# Altium footprint library Connector.PcbLib: 240 footprints (part 5 of 15)
Each footprint in its own frame and in the unit in brackets; x right, y up, seen from the top. Pads: shape width x height; smd on the part's side, far side on the other; paste and mask are expansions set on the pad; w line width, h text height; cw(c..) or ccw(c..) is an arc to the next point about the centre after c.
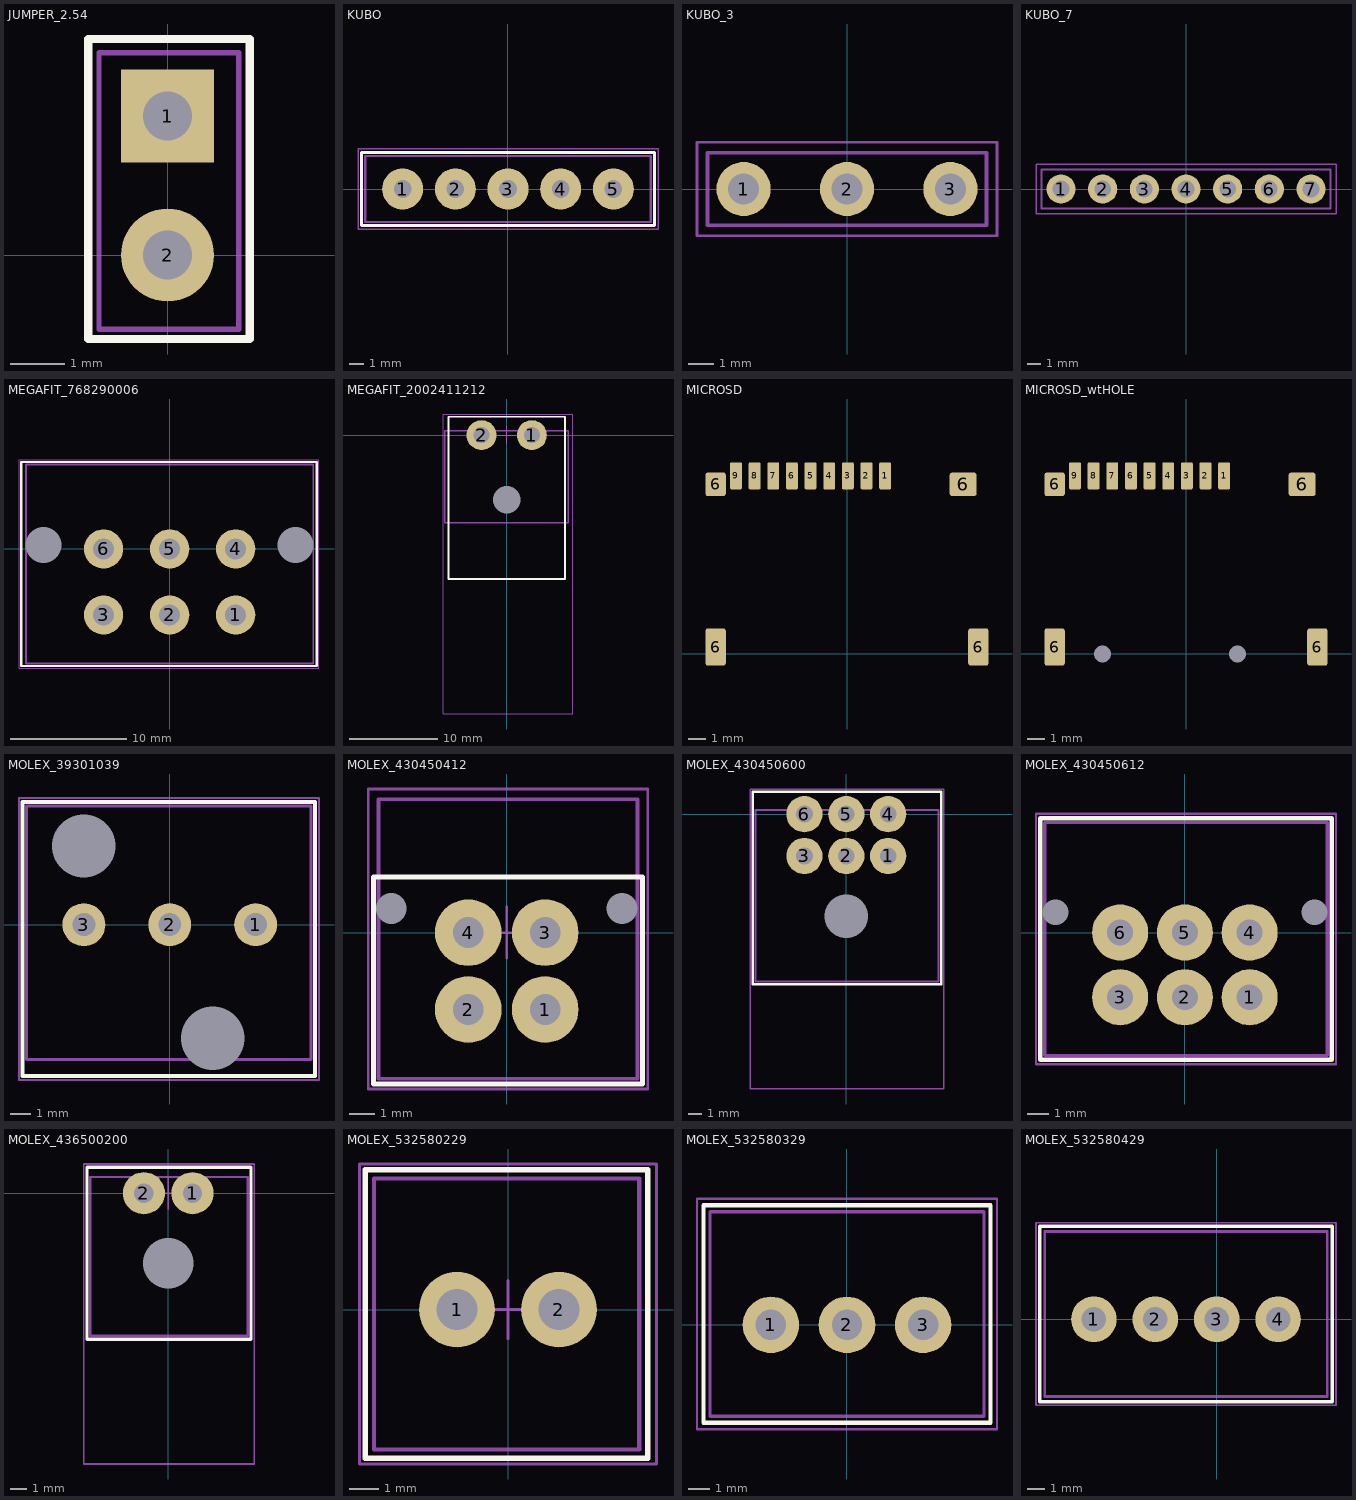
[diagram p4: the footprints below, top view; thin cyan lines are the x and y axes]

## JUMPER_2.54 [mm] "Разъем для программатора ISP"
height 0.05
pads (2):
  rect 1.7x1.7 hole 0.9: 1(0,2.54)
  round 1.7 hole 0.9: 2(0,0)
Top Overlay:
  lines w0.15: -1.45,-1.535 1.5,-1.535 1.5,3.95 -1.45,3.95 -1.45,-1.535
Mechanical 7:
  lines w0.1: -1.255,-1.355 -1.25,-1.36 1.3,-1.36 1.3,3.7 -1.255,3.7 -1.255,-1.355
Mechanical 10:
  text ".Comment" at -0.7,-4.1 h0.6
  text ".Designator" at -0.3,3.7 h0.8
3D body "Jumper.STEP": height 8.54, standoff -3, extent -1.265,-1.355 1.279,3.795

## KUBO [mm]
pads (5):
  round 2.8 hole 1.2: 1(-7.2,0) 2(-3.6,0) 3(0,0) 4(3.6,0) 5(7.2,0)
Top Overlay:
  lines w0.2: -10,-2.5 10,-2.5 10,2.5 -10,2.5 -10,-2.5
Mechanical 11:
  lines w0.15: -9.75,-2.25 9.75,-2.25 9.75,2.25 -9.75,2.25 -9.75,-2.25
Mechanical 15:
  lines w0.1: -1,0 1,0 ; 0,-1 0,1 ; -10.25,-2.75 10.25,-2.75 10.25,2.75 -10.25,2.75 -10.25,-2.75

## KUBO_3 [mm]
pads (3):
  round 2.1 hole 1.2: 1(-4,0) 2(0,0) 3(4,0)
Mechanical 11:
  lines w0.15: -5.4,-1.4 5.4,-1.4 5.4,1.4 -5.4,1.4 -5.4,-1.4
Mechanical 15:
  lines w0.1: -1,0 1,0 ; 0,-1 0,1 ; -5.8,-1.8 5.8,-1.8 5.8,1.8 -5.8,1.8 -5.8,-1.8

## KUBO_7 [mm]
pads (7):
  round 2.1 hole 1.2: 1(-9,0) 2(-6,0) 3(-3,0) 4(0,0) 5(3,0) 6(6,0) 7(9,0)
Mechanical 11:
  lines w0.15: -10.4,-1.4 -10.4,1.4 10.4,1.4 10.4,-1.4 -10.4,-1.4
Mechanical 15:
  lines w0.1: -1,0 1,0 ; 0,-1 0,1 ; -10.8,-1.8 -10.8,1.8 10.8,1.8 10.8,-1.8 -10.8,-1.8

## MEGAFIT_768290006 [mm]
pads (8):
  round 3.4 hole 1.81: 1(5.7,-5.7) 2(0,-5.7) 3(-5.7,-5.7) 4(5.7,0) 5(0,0) 6(-5.7,0)
  round 0 hole 3.1 unplated: ""(-10.87,0.325) ""(10.87,0.325)
Top Overlay:
  lines w0.2: -12.8,-10.1 12.7,-10.1 12.7,7.5 -12.8,7.5 -12.8,-10.1
Mechanical 7:
  lines w0.15: -12.4,-9.9 12.4,-9.9 12.4,7.3 -12.4,7.3 -12.4,-9.9
Mechanical 9:
  text ".Designator" at -7.8,10.1 h3
Mechanical 10:
  text ".Comment" at -3.1,8.3 h2
Mechanical 15:
  lines w0.1: -1,0 1,0 ; 0,-1 0,1 ; -13,-10.3 12.9,-10.3 12.9,7.7 -13,7.7 -13,-10.3
3D body "Connector - 6pin (768290006 & 1716920106).STEP": height 29.13, standoff -3.45, extent -12.391,-9.878 12.4,7.278

## MEGAFIT_2002411212 [mm]
pads (3):
  round 3.4 hole 1.81: 1(2.85,0) 2(-2.85,0)
  round 0 hole 3.1 unplated: ""(0,-7.3)
Top Overlay:
  lines w0.2: -6.6,-16.3 -6.6,2.1 6.6,2.1 6.6,-16.3 -6.6,-16.3
Mechanical 7:
  lines w0.15: -7,-9.9 -7,0.5 7,0.5 7,-9.9 -7,-9.9
Mechanical 9:
  text ".Designator" at -5.1,5 h3
Mechanical 10:
  text ".Comment" at -3.2,3 h2
Mechanical 15:
  lines w0.1: -1,0 1,0 ; 0,-1 0,1 ; -7.2,-31.6 -7.2,2.4 7.5,2.4 7.5,-31.6 -7.2,-31.6
3D body "!2002411212.STEP": height 11.8, standoff -3.41, extent -7.025,-31.537 7.025,0.5

## MICROSD [mm]
pads (13):
  rrect25% 0.7x1.6 smd: 1(2.25,10.5) 2(1.15,10.5) 3(0.05,10.5) 4(-1.05,10.5) 5(-2.15,10.5) 6(-3.25,10.5) 7(-4.35,10.5) 8(-5.45,10.5) 9(-6.55,10.5)
  rrect25% 1.2x2.2 smd: 6(-7.75,0.4) 6(7.75,0.4)
  rrect25% 1.2x1.4 smd: 6(-7.75,10)
  rrect25% 1.6x1.4 smd: 6(6.85,10)
3D body "User Library-MEM2055-00-190-01-A_revG.step": height 1.91, standoff -0.54, extent -8,-4.025 8,11.225

## MICROSD_wtHOLE [mm]
pads (15):
  rrect25% 0.7x1.6 smd: 1(2.25,10.5) 2(1.15,10.5) 3(0.05,10.5) 4(-1.05,10.5) 5(-2.15,10.5) 6(-3.25,10.5) 7(-4.35,10.5) 8(-5.45,10.5) 9(-6.55,10.5)
  rrect25% 1.2x2.2 smd: 6(-7.75,0.4) 6(7.75,0.4)
  rrect25% 1.2x1.4 smd: 6(-7.75,10)
  rrect25% 1.6x1.4 smd: 6(6.85,10)
  round 0 hole 1 unplated: ""(-4.93,0) ""(3.05,0)
3D body "User Library-MEM2055-00-190-01-A_revG.step": height 1.91, standoff -0.54, extent -8,-4.025 8,11.225

## MOLEX_39301039 [mm]
pads (5):
  round 2.1 hole 1.12: 1(4.2,0) 2(0,0) 3(-4.2,0)
  round 0 hole 3.1 unplated: ""(-4.2,3.85) ""(2.1,-5.55)
Top Overlay:
  lines w0.2: -7.2,-7.4 -7.2,6 7.1,6 7.1,-7.4 -7.2,-7.4
Mechanical 11:
  lines w0.15: -7,-6.6 -7,5.8 6.9,5.8 6.9,-6.6 -7,-6.6
Mechanical 15:
  lines w0.1: -1,0 1,0 ; 0,-1 0,1 ; -7.375,-7.6 7.3,-7.6 7.3,6.2 -7.375,6.2 -7.375,-7.6
3D body "Power connector (039301039 - 039014030).STEP": height 23.5, standoff -3.95, extent -7,-6.579 6.9,5.8

## MOLEX_430450412 [mm]
pads (6):
  round 2.6 hole 1.2: 1(1.5,-3) 2(-1.5,-3) 3(1.5,0) 4(-1.5,0)
  round 0 hole 1.2: ""(-4.5,0.94) ""(4.5,0.94)
Top Overlay:
  lines w0.2: -5.2,-5.9 5.3,-5.9 5.3,2.175 -5.2,2.175 -5.2,-5.9
Mechanical 7:
  lines w0.15: -5,-5.7 5.1,-5.7 5.1,5.2 -5,5.2 -5,-5.7
Mechanical 9:
  text ".Designator" at -6.5,10.2 h3
Mechanical 10:
  text ".Comment" at -4.6,8.4 h2
Mechanical 15:
  lines w0.1: -1,0 1,0 ; 0,-1 0,1 ; -5.4,-6.1 5.5,-6.1 5.5,5.6 -5.4,5.6 -5.4,-6.1
3D body "cuadropin.STEP": height 17.6, standoff -3.14, extent -5.075,-5.66 5.075,5.17

## MOLEX_430450600 [mm]
pads (7):
  round 2.6 hole 1.2: 1(3,-3) 2(0,-3) 3(-3,-3) 4(3,0) 5(0,0) 6(-3,0)
  round 0 hole 3.1: ""(0,-7.32)
Top Overlay:
  lines w0.2: -6.7,-12.2 -6.7,1.6 6.8,1.6 6.8,-12.2 -6.7,-12.2
Mechanical 7:
  lines w0.15: -6.5,-12 -6.5,0.3 6.6,0.3 6.6,-12 -6.5,-12
Mechanical 9:
  text ".Designator" at -5,4.2 h3
Mechanical 10:
  text ".Comment" at -3.1,2.4 h2
Mechanical 15:
  lines w0.1: -1,0 1,0 ; 0,-1 0,1 ; -6.9,-19.7 -6.9,1.8 7,1.8 7,-19.7 -6.9,-19.7
3D body "Connector 430450600 & 430250600.STEP": height 10.77, standoff -3.12, extent -6.575,-19.62 6.575,0.27

## MOLEX_430450612 [mm]
pads (8):
  round 2.6 hole 1.2: 1(3,-3) 2(0,-3) 3(-3,-3) 4(3,0) 5(0,0) 6(-3,0)
  round 0 hole 1.2: ""(-6,0.94) ""(6,0.94)
Top Overlay:
  lines w0.2: -6.7,-5.9 6.8,-5.9 6.8,5.3 -6.7,5.3 -6.7,-5.9
Mechanical 7:
  lines w0.15: -6.5,-5.7 6.6,-5.7 6.6,5.1 -6.5,5.1 -6.5,-5.7
Mechanical 9:
  text ".Designator" at -5.2,7.7 h3
Mechanical 10:
  text ".Comment" at -3.3,5.9 h2
Mechanical 15:
  lines w0.1: -1,0 1,0 ; 0,-1 0,1 ; -6.9,-6.1 7,-6.1 7,5.5 -6.9,5.5 -6.9,-6.1
3D body "seispin.STEP": height 17.6, standoff -3.14, extent -6.575,-5.68 6.575,5.15

## MOLEX_436500200 [mm]
pads (3):
  round 2.6 hole 1.2: 1(1.5,0) 2(-1.5,0)
  round 0 hole 3.1: ""(0,-4.32)
Top Overlay:
  lines w0.2: -5,-9 -5,1.6 5.1,1.6 5.1,-9 -5,-9
Mechanical 7:
  lines w0.15: -4.8,-8.8 -4.8,1 4.9,1 4.9,-8.8 -4.8,-8.8
Mechanical 9:
  text ".Designator" at -5,4.2 h3
Mechanical 10:
  text ".Comment" at -3.1,2.4 h2
Mechanical 15:
  lines w0.1: -1,0 1,0 ; 0,-1 0,1 ; -5.2,-16.7 -5.2,1.8 5.3,1.8 5.3,-16.7 -5.2,-16.7
3D body "Разъем 08.09.20.STEP": height 7.05, standoff -3.24, extent -4.8,-16.55 4.85,1

## MOLEX_532580229 [mm]
pads (2):
  round 2.6 hole 1.4: 1(-1.75,0) 2(1.75,0)
Top Overlay:
  lines w0.2: -4.9,-5.1 4.8,-5.1 4.8,4.8 -4.9,4.8 -4.9,-5.1
Mechanical 11:
  lines w0.15: -4.6,-4.8 4.5,-4.8 4.5,4.5 -4.6,4.5 -4.6,-4.8
Mechanical 15:
  lines w0.1: -1,0 1,0 ; 0,-1 0,1 ; -5.1,-5.3 5.1,-5.3 5.1,5 -5.1,5 -5.1,-5.3
3D body "Сборка 1.STEP": height 16.65, standoff -3.35, extent -4.6,-4.85 4.5,4.55

## MOLEX_532580329 [mm]
pads (3):
  round 2.6 hole 1.4: 1(-3.5,0) 2(0,0) 3(3.5,0)
Top Overlay:
  lines w0.2: -6.6,-4.5 -6.6,5.5 6.6,5.5 6.6,-4.5 -6.6,-4.5
Mechanical 11:
  lines w0.15: 6.3,5.2 -6.3,5.2 -6.3,-4.2 6.3,-4.2 6.3,5.2
Mechanical 15:
  lines w0.1: -0.95,0 1.05,0 ; 0.05,-1 0.05,1 ; 6.9,-4.8 -6.9,-4.8 -6.9,5.8 6.9,5.8 6.9,-4.8
3D body "Connector 510670300 & 532580329.STEP": height 16.65, standoff -3.35, extent -6.3,-4.2 6.3,5.2

## MOLEX_532580429 [mm]
pads (4):
  round 2.6 hole 1.4: 1(-7,0) 2(-3.5,0) 3(0,0) 4(3.5,0)
Top Overlay:
  lines w0.2: -10.1,-4.7 6.6,-4.7 6.6,5.3 -10.1,5.3 -10.1,-4.7
Mechanical 11:
  lines w0.15: -9.8,-4.4 -9.8,5 6.3,5 6.3,-4.4 -9.8,-4.4
Mechanical 15:
  lines w0.1: -0.95,0 1.05,0 ; 0.05,-1 0.05,1 ; -10.3,-4.9 6.8,-4.9 6.8,5.5 -10.3,5.5 -10.3,-4.9
3D body "4 pin streight.STEP": height 16.65, standoff -3.35, extent -9.8,-4.4 6.3,5